# Altium schematic symbol library SamacSys2.SchLib: 11 symbols
Pins are listed as number, name and electrical type; pins without a type are passive.

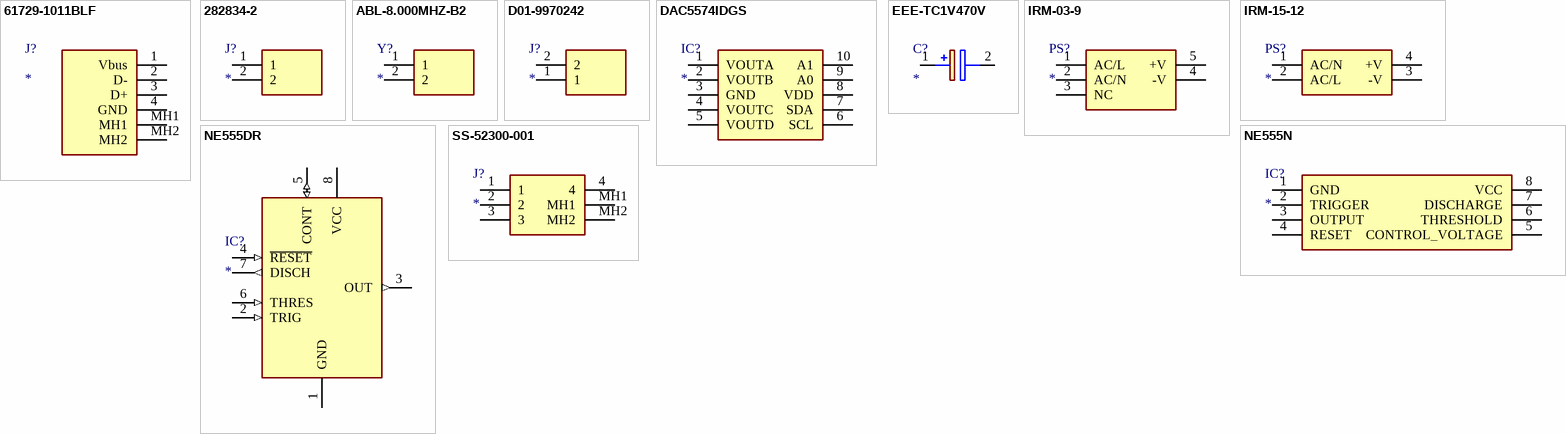
[diagram p0: symbols 61729-1011BLF to SS-52300-001]

## 61729-1011BLF
designator J?
Connector; Manufacturer_Name: Amphenol; Manufacturer_Part_Number: 61729-1011BLF; Allied_Number: 70236839; Datasheet Link: https://www.mouser.com/datasheet/2/18/61729-1363119.pdf; Height: 11.5mm; Mouser Part Number: 649-61729-1011BLF; Mouser Price/Stock: https://www.mouser.com/Search/Refine.aspx?Keyword=649-61729-1011BLF; RS Part Number: 7710041; RS Price/Stock: http://uk.rs-online.com/web/p/products/7710041; Allied Price/Stock: https://www.alliedelec.com/amphenol-fci-61729-1011blf/70236839/
footprint 617291011BLF
pins: 1 Vbus, 2 D-, 3 D+, 4 GND, MH1, MH2

## 282834-2
designator J?
Connector; Manufacturer_Name: TE Connectivity; Manufacturer_Part_Number: 282834-2; Datasheet Link: https://componentsearchengine.com/Datasheets/1/282834-2.pdf; Mouser2 Part Number: 571-282834-2; Mouser2 Price/Stock: https://www.mouser.com/Search/Refine.aspx?Keyword=571-282834-2
footprint 282834-2_1
pins: 1, 2

## ABL-8.000MHZ-B2
designator Y?
Crystal or Oscillator; Manufacturer_Name: ABRACON; Manufacturer_Part_Number: ABL-8.000MHZ-B2; Datasheet Link: http://www.abracon.com/Resonators/ABL.pdf; Mouser Part Number: 815-ABL-8-B2; Mouser Price/Stock: https://www.mouser.co.uk/ProductDetail/ABRACON/ABL-8000MHZ-B2?qs=zLkLEWnxMJxHYmzIauBRTw%3D%3D; RS Part Number: 1710614; RS Price/Stock: http://uk.rs-online.com/web/p/products/1710614
footprint HC/49US_(AT49)PTH
pins: 1, 2

## D01-9970242
designator J?
Connector; Manufacturer_Name: HARWIN; Manufacturer_Part_Number: D01-9970242; Datasheet Link: https://componentsearchengine.com/Datasheets/1/D01-9970242.pdf; Height: 4.25mm; Mouser Part Number: 855-D01-9970242; Mouser Price/Stock: https://www.mouser.com/Search/Refine.aspx?Keyword=855-D01-9970242
footprint D019970242
pins: 1, 2

## DAC5574IDGS
designator IC?
Integrated Circuit; Manufacturer_Name: Texas Instruments; Manufacturer_Part_Number: DAC5574IDGS; Datasheet Link: http://www.ti.com/lit/gpn/dac5574; Height: 1.1mm; Mouser Part Number: 595-DAC5574IDGS; Mouser Price/Stock: https://www.mouser.com/Search/Refine.aspx?Keyword=595-DAC5574IDGS; RS Part Number: 6621533P; RS Price/Stock: http://uk.rs-online.com/web/p/products/6621533P
footprint SOP50P490X110-10N
pins: 1 VOUTA, 2 VOUTB, 3 GND, 4 VOUTC, 5 VOUTD, 6 SCL, 7 SDA, 8 VDD, 9 A0, 10 A1

## EEE-TC1V470V
designator C?
Capacitor Polarised; Manufacturer_Name: Panasonic; Manufacturer_Part_Number: EEE-TC1V470V; Datasheet Link: https://industrial.panasonic.com/cdbs/www-data/pdf/RDE0000/ABA0000C678.pdf; Height: 10.5mm; Mouser Part Number: 667-EEE-TC1V470V; Mouser Price/Stock: https://www.mouser.co.uk/ProductDetail/Panasonic/EEE-TC1V470V?qs=PzGy0jfpSMtinWY2wRWA2w%3D%3D
footprint CAPAE830X1050N
pins: 1 +, 2 -

## IRM-03-9
designator PS?
Power Supply; Manufacturer_Name: Mean Well; Manufacturer_Part_Number: IRM-03-9; Allied_Number: 70879802; Datasheet Link: https://componentsearchengine.com/Datasheets/2/IRM-03-9.pdf; Height: 15mm; Mouser Part Number: 709-IRM03-9; Mouser Price/Stock: https://www.mouser.com/Search/Refine.aspx?Keyword=709-IRM03-9; RS Part Number: 1359235P; RS Price/Stock: http://uk.rs-online.com/web/p/products/1359235P; Allied Price/Stock: https://www.alliedelec.com/meanwellusa-irm-03-9/70879802/
footprint IRM039
pins: 1 AC/L, 2 AC/N, 3 NC, 4 -V, 5 +V

## IRM-15-12
designator PS?
Power Supply; Manufacturer_Name: Mean Well; Manufacturer_Part_Number: IRM-15-12; Datasheet Link: https://www.meanwell-web.com/content/files/pdfs/productPdfs/MW/IRM-15-spec.pdf; Mouser2 Part Number: 709-IRM15-12; Mouser2 Price/Stock: https://www.mouser.com/Search/Refine.aspx?Keyword=709-IRM15-12
footprint IRM-15-12
pins: 1 AC/N, 2 AC/L, 3 -V, 4 +V

## NE555DR
designator IC?
Integrated Circuit; Manufacturer_Name: Texas Instruments; Manufacturer_Part_Number: NE555DR; Datasheet Link: http://www.ti.com/lit/ds/symlink/ne555.pdf; Height: 1.75mm; Mouser Part Number: 595-NE555DR; Mouser Price/Stock: https://www.mouser.com/Search/Refine.aspx?Keyword=595-NE555DR; RS Part Number: 1218414; RS Price/Stock: http://uk.rs-online.com/web/p/products/1218414
footprint SOIC127P600X175-8N
pins: 1 GND (power), 2 TRIG (in), 3 OUT (out), 4 ~{RESET} (in), 5 CONT (io), 6 THRES (in), 7 DISCH (out), 8 VCC (power)

## NE555N
designator IC?
Integrated Circuit; Manufacturer_Name: STMicroelectronics; Manufacturer_Part_Number: NE555N; Datasheet Link: https://componentsearchengine.com/Datasheets/2/NE555N.pdf; Height: 5.33mm; Mouser Part Number: 511-NE555N; Mouser Price/Stock: https://www.mouser.com/Search/Refine.aspx?Keyword=511-NE555N; RS Part Number: 7140994P; RS Price/Stock: http://uk.rs-online.com/web/p/products/7140994P
footprint DIP762W56P254L959H533Q8N
pins: 1 GND, 2 TRIGGER, 3 OUTPUT, 4 RESET, 5 CONTROL_VOLTAGE, 6 THRESHOLD, 7 DISCHARGE, 8 VCC

## SS-52300-001
designator J?
Connector; Manufacturer_Name: Bel; Manufacturer_Part_Number: SS-52300-001; Datasheet Link: https://belfuse.com/resources/datasheets/stewartconnector/ds-stw-usb-2.0-type-b-connectors.pdf; Height: 10.82mm; Mouser Part Number: 530-SS-52300-001
footprint SS52300001
pins: 1, 2, 3, 4, MH1, MH2